# Altium footprint library CONN_SATA.PcbLib: 4 footprints
Each footprint in its own frame and in the unit in brackets; x right, y up, seen from the top. Pads: shape width x height; smd on the part's side, far side on the other; paste and mask are expansions set on the pad; w line width, h text height; cw(c..) or ccw(c..) is an arc to the next point about the centre after c.
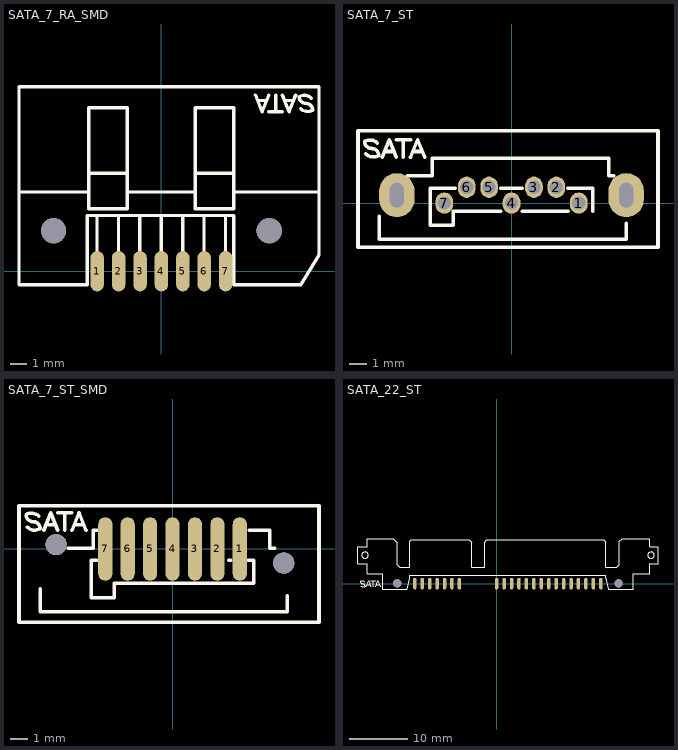
[diagram p0: the footprints below, top view; thin cyan lines are the x and y axes]

## SATA_7_RA_SMD [mm] "Serial ATA/RightAngle/SMT/Locking Latch/Footprint molex pn:047080-4001"
height 8.4
pads (9):
  oval 0.8x2.4 smd: 1(-3.81,0) 2(-2.54,0) 3(-1.27,0) 4(0,0) 5(1.27,0) 6(2.54,0) 7(3.81,0)
  round 1.5 hole 1.5 unplated: ""(-6.4,2.4) ""(6.4,2.4)
TopOverlay:
  lines w0.2: -8.45,4.7 -4.32,4.7 ; -4.32,5.8 -2.02,5.8 ; -3.82,1.2 -3.82,3.3 ; -2.55,1.2 -2.55,3.3 ; -2.02,4.7 2,4.7 ; -1.28,1.2 -1.28,3.3 ; -0.01,1.2 -0.01,3.3 ; 1.26,1.2 1.26,3.3 ; 2,5.8 4.3,5.8 ; 2.53,1.2 2.53,3.3 ; 3.8,1.2 3.8,3.3 ; 4.3,4.7 9.35,4.7 ; 5.574,10.455 5.974,9.455 6.374,10.455 ; 5.716,10.124 6.242,10.124 ; 6.374,9.455 7.174,9.455 ; 6.774,9.455 6.774,10.455 ; 7.174,10.455 7.574,9.455 7.974,10.455 ; 7.306,10.124 7.833,10.124 ; 8.25,9.65 ccw(c8.674,10.074) 8.974,9.555 ccw(c8.574,9.555) 8.574,9.955 cw(c8.574,10.355) 8.174,10.355 cw(c8.474,9.835) 8.899,10.259 ; -8.45,-0.8 -4.4,-0.8 -4.4,3.3 4.3,3.3 4.3,-0.8 8.281,-0.8 9.35,0.95 9.35,10.95 -8.45,10.95 -8.45,-0.8 ; -4.32,3.7 -2.02,3.7 -2.02,9.7 -4.32,9.7 -4.32,3.7 ; 2,3.7 4.3,3.7 4.3,9.7 2,9.7 2,3.7
3D body "470804001.stp": height 5.92, standoff -2.53, extent -8.32,-0.755 9.22,10.805

## SATA_7_ST [mm] "Serial ATA/Vertical/THD/Locking Latch/Footprint molex pn:67800-8001"
height 8.4
pads (9):
  oval 1x1.2 hole 0.75: 1(3.81,0) 2(2.54,0.9) 3(1.27,0.9) 4(0,0) 5(-1.27,0.9) 6(-2.54,0.9) 7(-3.81,0)
  oval 2x2.5 hole 0.8 slot 1.4 at 90 deg: ""(-6.5,0.45) ""(6.5,0.45)
TopOverlay:
  lines w0.2: -8.249,2.791 ccw(c-7.824,3.215) -7.524,2.695 ccw(c-7.924,2.695) -7.924,3.095 cw(c-7.924,3.495) -8.324,3.495 cw(c-8.024,2.976) -7.6,3.4 ; -7.5,-0.75 -7.5,-2.05 6.5,-2.05 6.5,-1.15 ; -7.324,2.595 -6.924,3.595 -6.524,2.595 ; -7.183,2.926 -6.656,2.926 ; -6.524,3.595 -5.724,3.595 ; -6.124,2.595 -6.124,3.595 ; -5.9,1.55 -4.5,1.55 -4.5,2.55 5.5,2.55 5.5,1.55 5.8,1.55 ; -5.724,2.595 -5.324,3.595 -4.924,2.595 ; -5.592,2.926 -5.066,2.926 ; -3.2,0.85 -4.6,0.85 -4.6,-1.25 -3.3,-1.25 -3.3,-0.45 -0.6,-0.45 ; -0.6,0.85 0.6,0.85 ; 0.6,-0.45 3.2,-0.45 ; 3.2,0.85 4.6,0.85 4.6,-0.45 ; -8.7,-2.5 -8.7,4.1 8.3,4.1 8.3,-2.5 -8.7,-2.5
3D body "SATA Molex SD-47155-004.STEP": height 8.4, standoff -2.65, extent -8.65,-2.425 8.25,4.025

## SATA_7_ST_SMD [mm] "Serial ATA/Vertical/SMT/Locking Latch/Footprint molex pn:67800-5003"
height 8.4
pads (9):
  oval 0.8x3.6 smd: 1(3.81,0) 2(2.54,0) 3(1.27,0) 4(0,0) 5(-1.27,0) 6(-2.54,0) 7(-3.81,0)
  round 1.2 hole 1.2 unplated: ""(-6.6,0.25) ""(6.3,-0.8)
TopOverlay:
  lines w0.2: -8.224,1.245 ccw(c-7.8,1.67) -7.5,1.15 ccw(c-7.9,1.15) -7.9,1.55 cw(c-7.9,1.95) -8.3,1.95 cw(c-8,1.43) -7.576,1.855 ; -7.5,-2.25 -7.5,-3.55 6.5,-3.55 6.5,-2.65 ; -7.3,1.05 -6.9,2.05 -6.5,1.05 ; -7.158,1.38 -6.632,1.38 ; -6.5,2.05 -5.7,2.05 ; -6.1,1.05 -6.1,2.05 ; -5.9,0.05 -4.5,0.05 -4.5,1.05 -4.3,1.05 ; -5.7,1.05 -5.3,2.05 -4.9,1.05 ; -5.568,1.38 -5.042,1.38 ; -4.3,-0.65 -4.6,-0.65 -4.6,-2.75 -3.3,-2.75 -3.3,-1.95 4.6,-1.95 4.6,-0.65 4.3,-0.65 ; 3.2,-0.65 3.3,-0.65 ; 4.35,1.05 5.5,1.05 5.5,0.05 5.8,0.05 ; -8.7,-4.15 -8.7,2.45 8.3,2.45 8.3,-4.15 -8.7,-4.15
3D body "678005003.stp": height 8.4, standoff -2.65, extent -8.65,-4 8.25,2.45

## SATA_22_ST [mm] "Serial ATA/Vertical/Through Hole/Locking Latch/Footprint molex pn:67800-8001"
height 8.4
pads (24):
  oval 0.6x2 smd: 1(-13.97,0) 2(-12.7,0) 3(-11.43,0) 4(-10.16,0) 5(-8.89,0) 6(-7.62,0) 7(-6.35,0) P1(0,0) P2(1.27,0) P3(2.54,0) P4(3.81,0) P5(5.08,0) P6(6.35,0) P7(7.62,0) P8(8.89,0) P9(10.16,0) P10(11.43,0) P11(12.7,0) P12(13.97,0) P13(15.24,0) P14(16.51,0) P15(17.78,0)
  round 1.4 hole 1.4 unplated: ""(-16.96,0.05) ""(20.81,0.05)
TopOverlay:
  circle w0.2: c-22.46,4.85 r0.55
  circle w0.2: c26.34,4.85 r0.55
  lines w0.2: -23.184,-0.355 ccw(c-22.76,0.07) -22.46,-0.45 ccw(c-22.86,-0.45) -22.86,-0.05 cw(c-22.86,0.35) -23.26,0.35 cw(c-22.96,-0.17) -22.536,0.255 ; -22.26,-0.55 -21.86,0.45 -21.46,-0.55 ; -22.118,-0.22 -21.592,-0.22 ; -21.46,0.45 -20.66,0.45 ; -21.06,-0.55 -21.06,0.45 ; -20.66,-0.55 -20.26,0.45 -19.86,-0.55 ; -20.528,-0.22 -20.002,-0.22 ; -23.66,3.4 -23.66,6.3 -22.06,6.3 -22.06,7.7 -17.66,7.7 -16.96,7 -16.96,3.2 -16.56,2.8 -14.86,2.8 -14.86,7.2 -14.56,7.5 -4.66,7.5 -4.26,7.1 -4.26,2.8 -2.06,2.8 -2.06,7.1 -1.66,7.5 18.24,7.5 18.64,7.1 18.64,2.8 20.54,2.8 20.94,3.2 20.94,7.2 21.44,7.7 26.14,7.7 26.14,6.3 27.54,6.3 27.54,3.4 26.14,3.4 26.14,1.7 23.34,1.7 23.34,-1 19.04,-1 18.64,0.9 18.64,1.4 -14.86,1.4 -14.86,0.9 -15.26,-1 -19.46,-1 -19.46,1.7 -22.06,1.7 -22.06,3.4 -23.66,3.4
3D body "SD-87703-002.step": height 3.4, standoff -0.6, extent -23.525,-0.9 27.405,7.6